# Altium footprint library PcbLib1.PcbLib: 13 footprints
Each footprint in its own frame and in the unit in brackets; x right, y up, seen from the top. Pads: shape width x height; smd on the part's side, far side on the other; paste and mask are expansions set on the pad; w line width, h text height; cw(c..) or ccw(c..) is an arc to the next point about the centre after c.
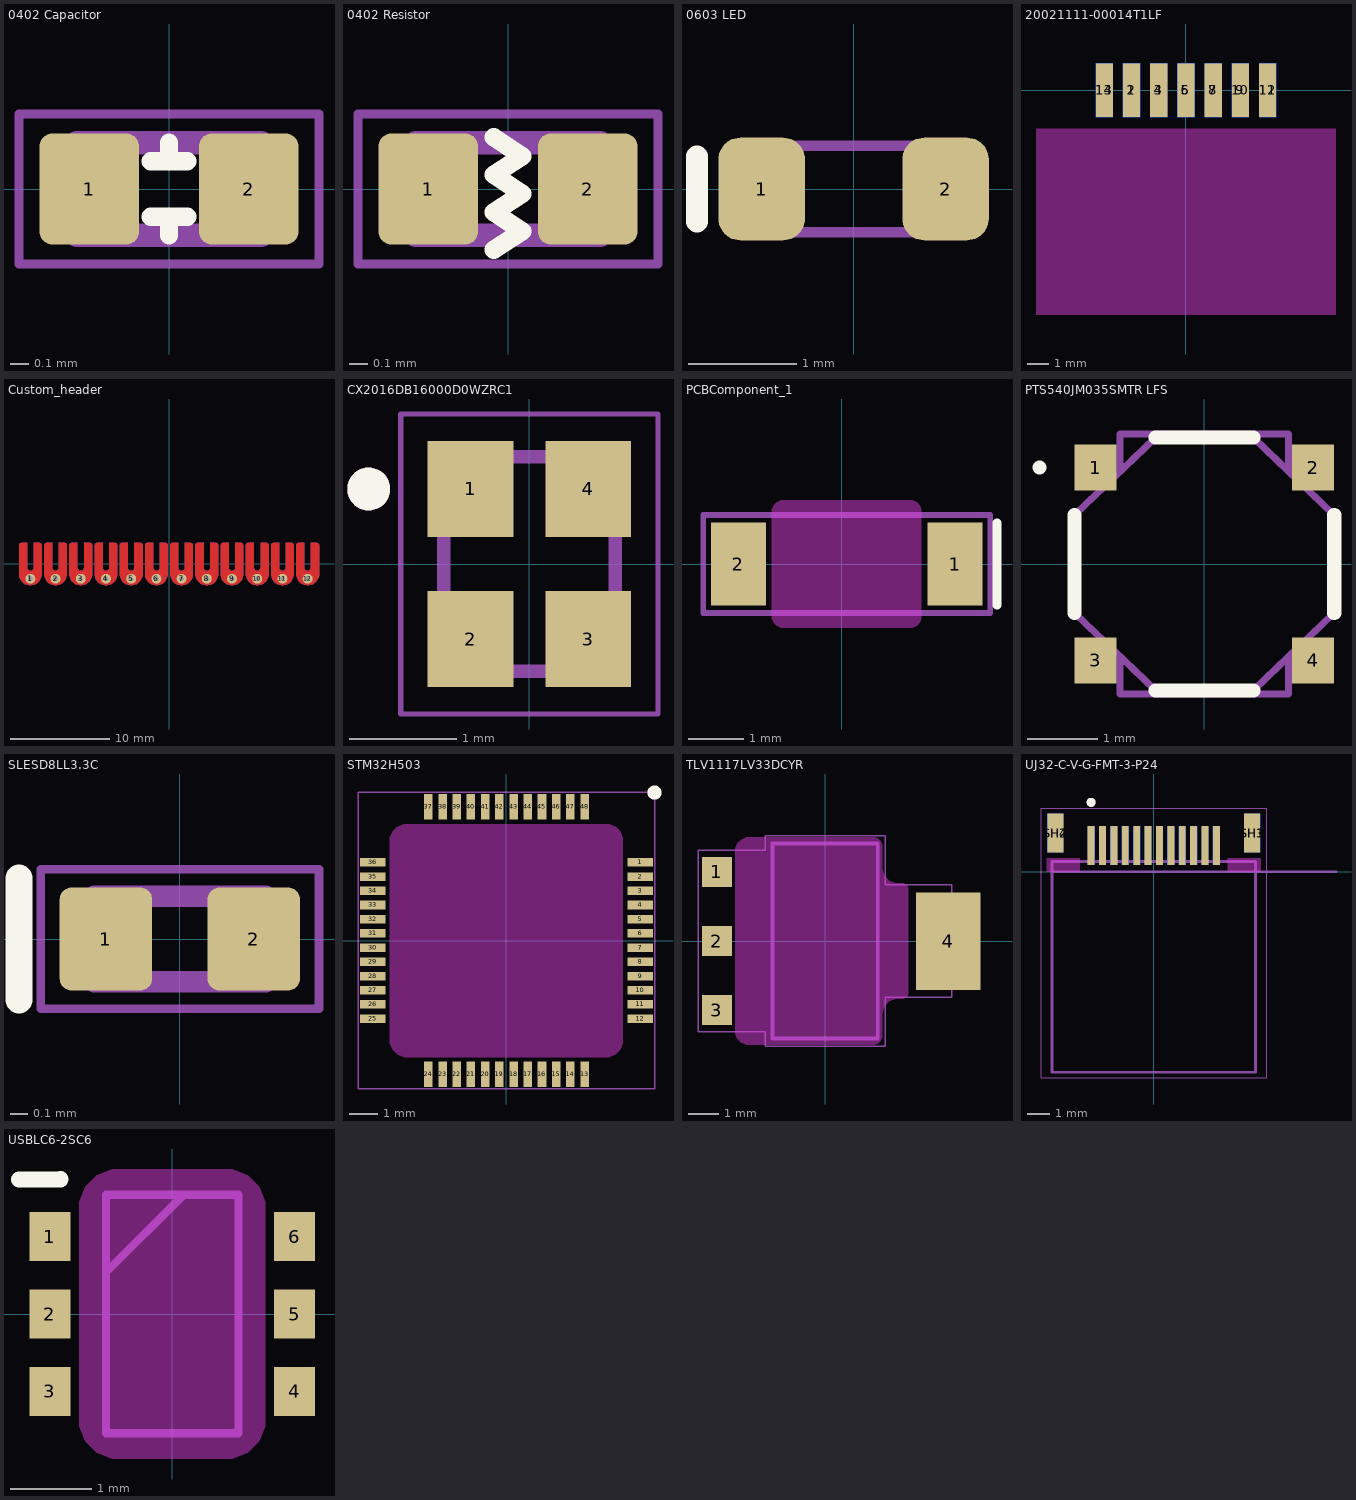
[diagram p0: the footprints below, top view; thin cyan lines are the x and y axes]

## 0402 Capacitor [mm]
pads (2):
  rrect25% 0.54x0.6 smd: 1(-0.432,0) 2(0.432,0)
Top Overlay:
  lines w0.1: -0.1,-0.15 0.1,-0.15 ; -0.1,0.15 0.1,0.15 ; 0,-0.25 0,-0.15 ; 0,0.15 0,0.25
Mechanical 13:
  lines w0.127: -0.5,-0.25 -0.5,0.25 0.5,0.25 0.5,-0.25 -0.5,-0.25
Mechanical 15:
  lines w0.05: -0.813,-0.406 -0.813,0.406 0.813,0.406 0.813,-0.406 -0.813,-0.406
3D body "step_temp.STEP": height 0.5, standoff 0, extent -0.5,-0.254 0.5,0.296

## 0402 Resistor [mm]
pads (2):
  rrect25% 0.54x0.6 smd: 1(-0.432,0) 2(0.432,0)
Top Overlay:
  lines w0.1: -0.076,-0.33 0.076,-0.229 -0.076,-0.127 0.076,-0.025 -0.076,0.076 0.076,0.178 -0.076,0.279
Mechanical 13:
  lines w0.127: -0.5,-0.25 -0.5,0.25 0.5,0.25 0.5,-0.25 -0.5,-0.25
Mechanical 15:
  lines w0.05: -0.813,-0.406 -0.813,0.406 0.813,0.406 0.813,-0.406 -0.813,-0.406
3D body "RC0402JR-070RL.step": height 0.4, standoff 0, extent -0.5,-0.25 0.5,0.25

## 0603 LED [mm]
pads (2):
  rrect50% 0.8x0.95 smd: 1(-0.85,0) 2(0.85,0)
Top Overlay:
  lines w0.2: -1.448,-0.3 -1.448,0.3
Mechanical 15:
  lines w0.1: -0.8,0.133 -0.533,0.4 ; -0.8,-0.4 0.8,-0.4 0.8,0.4 -0.8,0.4 -0.8,-0.4
3D body "APG1608ZGC.stp": height 0.2, standoff -0.05, extent -0.8,-0.4 0.8,0.4

## 20021111-00014T1LF [mm]
pads (14):
  rect 0.8x2.5 smd far side: 1(-2.54,0) 3(-1.27,0) 5(0,0) 7(1.27,0) 9(2.54,0) 11(3.81,0) 13(-3.81,0)
  rect 0.8x2.5 smd: 2(-2.54,0) 4(-1.27,0) 6(0,0) 8(1.27,0) 10(2.54,0) 12(3.81,0) 14(-3.81,0)
Keep-Out Layer:
  board cut-out: -7,-10.465 -7,-1.803 7,-1.803 7,-10.465

## Custom_header [mm]
pads (12):
  round 1 hole 0.5: 1(-13.97,-1.524) 2(-11.43,-1.524) 3(-8.89,-1.524) 4(-6.35,-1.524) 5(-3.81,-1.524) 6(-1.27,-1.524) 7(1.27,-1.524) 8(3.81,-1.524) 9(6.35,-1.524) 10(8.89,-1.524) 11(11.43,-1.524) 12(13.97,-1.524)
Top Layer:
  region: -15.113,-1.041 -15.113,1.854 -15.113,1.905 -15.074,1.998 -15.003,2.07 -14.91,2.108 -14.859,2.108 -14.3,2.108 -14.3,-0.406 -14.294,-0.471 -14.245,-0.59 -14.153,-0.681 -14.034,-0.73 -13.97,-0.737 -13.906,-0.73 -13.787,-0.681 -13.695,-0.59 -13.646,-0.471 -13.64,-0.406 -13.64,2.108 -13.081,2.108 -13.03,2.108 -12.937,2.07 -12.866,1.998 -12.827,1.905 -12.827,1.854 -12.827,-1.041 -12.827,-1.154 -12.871,-1.375 -12.957,-1.583 -13.082,-1.77 -13.241,-1.929 -13.429,-2.054 -13.637,-2.14 -13.857,-2.184 -13.97,-2.184 -14.083,-2.184 -14.303,-2.14 -14.511,-2.054 -14.699,-1.929 -14.858,-1.77 -14.983,-1.583 -15.069,-1.375 -15.113,-1.154
  region: -12.573,-1.041 -12.573,1.854 -12.573,1.905 -12.534,1.998 -12.463,2.07 -12.37,2.108 -12.319,2.108 -11.76,2.108 -11.76,-0.406 -11.754,-0.471 -11.705,-0.59 -11.613,-0.681 -11.494,-0.73 -11.43,-0.737 -11.366,-0.73 -11.247,-0.681 -11.155,-0.59 -11.106,-0.471 -11.1,-0.406 -11.1,2.108 -10.541,2.108 -10.49,2.108 -10.397,2.07 -10.326,1.998 -10.287,1.905 -10.287,1.854 -10.287,-1.041 -10.287,-1.154 -10.331,-1.375 -10.417,-1.583 -10.542,-1.77 -10.701,-1.929 -10.889,-2.054 -11.097,-2.14 -11.317,-2.184 -11.43,-2.184 -11.543,-2.184 -11.763,-2.14 -11.971,-2.054 -12.159,-1.929 -12.318,-1.77 -12.443,-1.583 -12.529,-1.375 -12.573,-1.154
  region: -10.033,-1.041 -10.033,1.854 -10.033,1.905 -9.994,1.998 -9.923,2.07 -9.83,2.108 -9.779,2.108 -9.22,2.108 -9.22,-0.406 -9.214,-0.471 -9.165,-0.59 -9.073,-0.681 -8.954,-0.73 -8.89,-0.737 -8.826,-0.73 -8.707,-0.681 -8.615,-0.59 -8.566,-0.471 -8.56,-0.406 -8.56,2.108 -8.001,2.108 -7.95,2.108 -7.857,2.07 -7.786,1.998 -7.747,1.905 -7.747,1.854 -7.747,-1.041 -7.747,-1.154 -7.791,-1.375 -7.877,-1.583 -8.002,-1.77 -8.161,-1.929 -8.349,-2.054 -8.557,-2.14 -8.777,-2.184 -8.89,-2.184 -9.003,-2.184 -9.223,-2.14 -9.431,-2.054 -9.619,-1.929 -9.778,-1.77 -9.903,-1.583 -9.989,-1.375 -10.033,-1.154
  region: -7.493,-1.041 -7.493,1.854 -7.493,1.905 -7.454,1.998 -7.383,2.07 -7.29,2.108 -7.239,2.108 -6.68,2.108 -6.68,-0.406 -6.674,-0.471 -6.625,-0.59 -6.533,-0.681 -6.414,-0.73 -6.35,-0.737 -6.286,-0.73 -6.167,-0.681 -6.075,-0.59 -6.026,-0.471 -6.02,-0.406 -6.02,2.108 -5.461,2.108 -5.41,2.108 -5.317,2.07 -5.246,1.998 -5.207,1.905 -5.207,1.854 -5.207,-1.041 -5.207,-1.154 -5.251,-1.375 -5.337,-1.583 -5.462,-1.77 -5.621,-1.929 -5.809,-2.054 -6.017,-2.14 -6.237,-2.184 -6.35,-2.184 -6.463,-2.184 -6.683,-2.14 -6.891,-2.054 -7.079,-1.929 -7.238,-1.77 -7.363,-1.583 -7.449,-1.375 -7.493,-1.154
  region: -4.953,-1.041 -4.953,1.854 -4.953,1.905 -4.914,1.998 -4.843,2.07 -4.75,2.108 -4.699,2.108 -4.14,2.108 -4.14,-0.406 -4.134,-0.471 -4.085,-0.59 -3.993,-0.681 -3.874,-0.73 -3.81,-0.737 -3.746,-0.73 -3.627,-0.681 -3.535,-0.59 -3.486,-0.471 -3.48,-0.406 -3.48,2.108 -2.921,2.108 -2.87,2.108 -2.777,2.07 -2.706,1.998 -2.667,1.905 -2.667,1.854 -2.667,-1.041 -2.667,-1.154 -2.711,-1.375 -2.797,-1.583 -2.922,-1.77 -3.081,-1.929 -3.269,-2.054 -3.477,-2.14 -3.697,-2.184 -3.81,-2.184 -3.923,-2.184 -4.143,-2.14 -4.351,-2.054 -4.539,-1.929 -4.698,-1.77 -4.823,-1.583 -4.909,-1.375 -4.953,-1.154
  region: -2.413,-1.041 -2.413,1.854 -2.413,1.905 -2.374,1.998 -2.303,2.07 -2.21,2.108 -2.159,2.108 -1.6,2.108 -1.6,-0.406 -1.594,-0.471 -1.545,-0.59 -1.453,-0.681 -1.334,-0.73 -1.27,-0.737 -1.206,-0.73 -1.087,-0.681 -0.995,-0.59 -0.946,-0.471 -0.94,-0.406 -0.94,2.108 -0.381,2.108 -0.33,2.108 -0.237,2.07 -0.166,1.998 -0.127,1.905 -0.127,1.854 -0.127,-1.041 -0.127,-1.154 -0.171,-1.375 -0.257,-1.583 -0.382,-1.77 -0.541,-1.929 -0.729,-2.054 -0.937,-2.14 -1.157,-2.184 -1.27,-2.184 -1.383,-2.184 -1.603,-2.14 -1.811,-2.054 -1.999,-1.929 -2.158,-1.77 -2.283,-1.583 -2.369,-1.375 -2.413,-1.154
  region: 0.127,-1.041 0.127,1.854 0.127,1.905 0.166,1.998 0.237,2.07 0.33,2.108 0.381,2.108 0.94,2.108 0.94,-0.406 0.946,-0.471 0.995,-0.59 1.087,-0.681 1.206,-0.73 1.27,-0.737 1.334,-0.73 1.453,-0.681 1.545,-0.59 1.594,-0.471 1.6,-0.406 1.6,2.108 2.159,2.108 2.21,2.108 2.303,2.07 2.374,1.998 2.413,1.905 2.413,1.854 2.413,-1.041 2.413,-1.154 2.369,-1.375 2.283,-1.583 2.158,-1.77 1.999,-1.929 1.811,-2.054 1.603,-2.14 1.383,-2.184 1.27,-2.184 1.157,-2.184 0.937,-2.14 0.729,-2.054 0.541,-1.929 0.382,-1.77 0.257,-1.583 0.171,-1.375 0.127,-1.154
  region: 2.667,-1.041 2.667,1.854 2.667,1.905 2.706,1.998 2.777,2.07 2.87,2.108 2.921,2.108 3.48,2.108 3.48,-0.406 3.486,-0.471 3.535,-0.59 3.627,-0.681 3.746,-0.73 3.81,-0.737 3.874,-0.73 3.993,-0.681 4.085,-0.59 4.134,-0.471 4.14,-0.406 4.14,2.108 4.699,2.108 4.75,2.108 4.843,2.07 4.914,1.998 4.953,1.905 4.953,1.854 4.953,-1.041 4.953,-1.154 4.909,-1.375 4.823,-1.583 4.698,-1.77 4.539,-1.929 4.351,-2.054 4.143,-2.14 3.923,-2.184 3.81,-2.184 3.697,-2.184 3.477,-2.14 3.269,-2.054 3.081,-1.929 2.922,-1.77 2.797,-1.583 2.711,-1.375 2.667,-1.154
  region: 5.207,-1.041 5.207,1.854 5.207,1.905 5.246,1.998 5.317,2.07 5.41,2.108 5.461,2.108 6.02,2.108 6.02,-0.406 6.026,-0.471 6.075,-0.59 6.167,-0.681 6.286,-0.73 6.35,-0.737 6.414,-0.73 6.533,-0.681 6.625,-0.59 6.674,-0.471 6.68,-0.406 6.68,2.108 7.239,2.108 7.29,2.108 7.383,2.07 7.454,1.998 7.493,1.905 7.493,1.854 7.493,-1.041 7.493,-1.154 7.449,-1.375 7.363,-1.583 7.238,-1.77 7.079,-1.929 6.891,-2.054 6.683,-2.14 6.463,-2.184 6.35,-2.184 6.237,-2.184 6.017,-2.14 5.809,-2.054 5.621,-1.929 5.462,-1.77 5.337,-1.583 5.251,-1.375 5.207,-1.154
  region: 7.747,-1.041 7.747,1.854 7.747,1.905 7.786,1.998 7.857,2.07 7.95,2.108 8.001,2.108 8.56,2.108 8.56,-0.406 8.566,-0.471 8.615,-0.59 8.707,-0.681 8.826,-0.73 8.89,-0.737 8.954,-0.73 9.073,-0.681 9.165,-0.59 9.214,-0.471 9.22,-0.406 9.22,2.108 9.779,2.108 9.83,2.108 9.923,2.07 9.994,1.998 10.033,1.905 10.033,1.854 10.033,-1.041 10.033,-1.154 9.989,-1.375 9.903,-1.583 9.778,-1.77 9.619,-1.929 9.431,-2.054 9.223,-2.14 9.003,-2.184 8.89,-2.184 8.777,-2.184 8.557,-2.14 8.349,-2.054 8.161,-1.929 8.002,-1.77 7.877,-1.583 7.791,-1.375 7.747,-1.154
  region: 10.287,-1.041 10.287,1.854 10.287,1.905 10.326,1.998 10.397,2.07 10.49,2.108 10.541,2.108 11.1,2.108 11.1,-0.406 11.106,-0.471 11.155,-0.59 11.247,-0.681 11.366,-0.73 11.43,-0.737 11.494,-0.73 11.613,-0.681 11.705,-0.59 11.754,-0.471 11.76,-0.406 11.76,2.108 12.319,2.108 12.37,2.108 12.463,2.07 12.534,1.998 12.573,1.905 12.573,1.854 12.573,-1.041 12.573,-1.154 12.529,-1.375 12.443,-1.583 12.318,-1.77 12.159,-1.929 11.971,-2.054 11.763,-2.14 11.543,-2.184 11.43,-2.184 11.317,-2.184 11.097,-2.14 10.889,-2.054 10.701,-1.929 10.542,-1.77 10.417,-1.583 10.331,-1.375 10.287,-1.154
  region: 12.827,-1.041 12.827,1.854 12.827,1.905 12.866,1.998 12.937,2.07 13.03,2.108 13.081,2.108 13.64,2.108 13.64,-0.406 13.646,-0.471 13.695,-0.59 13.787,-0.681 13.906,-0.73 13.97,-0.737 14.034,-0.73 14.153,-0.681 14.245,-0.59 14.294,-0.471 14.3,-0.406 14.3,2.108 14.859,2.108 14.91,2.108 15.003,2.07 15.074,1.998 15.113,1.905 15.113,1.854 15.113,-1.041 15.113,-1.154 15.069,-1.375 14.983,-1.583 14.858,-1.77 14.699,-1.929 14.511,-2.054 14.303,-2.14 14.083,-2.184 13.97,-2.184 13.857,-2.184 13.637,-2.14 13.429,-2.054 13.241,-1.929 13.082,-1.77 12.957,-1.583 12.871,-1.375 12.827,-1.154
Bottom Layer:
  region: -15.113,-1.041 -15.113,1.854 -15.113,1.905 -15.074,1.998 -15.003,2.07 -14.91,2.108 -14.859,2.108 -14.3,2.108 -14.3,-0.406 -14.294,-0.471 -14.245,-0.59 -14.153,-0.681 -14.034,-0.73 -13.97,-0.737 -13.906,-0.73 -13.787,-0.681 -13.695,-0.59 -13.646,-0.471 -13.64,-0.406 -13.64,2.108 -13.081,2.108 -13.03,2.108 -12.937,2.07 -12.866,1.998 -12.827,1.905 -12.827,1.854 -12.827,-1.041 -12.827,-1.154 -12.871,-1.375 -12.957,-1.583 -13.082,-1.77 -13.241,-1.929 -13.429,-2.054 -13.637,-2.14 -13.857,-2.184 -13.97,-2.184 -14.083,-2.184 -14.303,-2.14 -14.511,-2.054 -14.699,-1.929 -14.858,-1.77 -14.983,-1.583 -15.069,-1.375 -15.113,-1.154
  region: -12.573,-1.041 -12.573,1.854 -12.573,1.905 -12.534,1.998 -12.463,2.07 -12.37,2.108 -12.319,2.108 -11.76,2.108 -11.76,-0.406 -11.754,-0.471 -11.705,-0.59 -11.613,-0.681 -11.494,-0.73 -11.43,-0.737 -11.366,-0.73 -11.247,-0.681 -11.155,-0.59 -11.106,-0.471 -11.1,-0.406 -11.1,2.108 -10.541,2.108 -10.49,2.108 -10.397,2.07 -10.326,1.998 -10.287,1.905 -10.287,1.854 -10.287,-1.041 -10.287,-1.154 -10.331,-1.375 -10.417,-1.583 -10.542,-1.77 -10.701,-1.929 -10.889,-2.054 -11.097,-2.14 -11.317,-2.184 -11.43,-2.184 -11.543,-2.184 -11.763,-2.14 -11.971,-2.054 -12.159,-1.929 -12.318,-1.77 -12.443,-1.583 -12.529,-1.375 -12.573,-1.154
  region: -10.033,-1.041 -10.033,1.854 -10.033,1.905 -9.994,1.998 -9.923,2.07 -9.83,2.108 -9.779,2.108 -9.22,2.108 -9.22,-0.406 -9.214,-0.471 -9.165,-0.59 -9.073,-0.681 -8.954,-0.73 -8.89,-0.737 -8.826,-0.73 -8.707,-0.681 -8.615,-0.59 -8.566,-0.471 -8.56,-0.406 -8.56,2.108 -8.001,2.108 -7.95,2.108 -7.857,2.07 -7.786,1.998 -7.747,1.905 -7.747,1.854 -7.747,-1.041 -7.747,-1.154 -7.791,-1.375 -7.877,-1.583 -8.002,-1.77 -8.161,-1.929 -8.349,-2.054 -8.557,-2.14 -8.777,-2.184 -8.89,-2.184 -9.003,-2.184 -9.223,-2.14 -9.431,-2.054 -9.619,-1.929 -9.778,-1.77 -9.903,-1.583 -9.989,-1.375 -10.033,-1.154
  region: -7.493,-1.041 -7.493,1.854 -7.493,1.905 -7.454,1.998 -7.383,2.07 -7.29,2.108 -7.239,2.108 -6.68,2.108 -6.68,-0.406 -6.674,-0.471 -6.625,-0.59 -6.533,-0.681 -6.414,-0.73 -6.35,-0.737 -6.286,-0.73 -6.167,-0.681 -6.075,-0.59 -6.026,-0.471 -6.02,-0.406 -6.02,2.108 -5.461,2.108 -5.41,2.108 -5.317,2.07 -5.246,1.998 -5.207,1.905 -5.207,1.854 -5.207,-1.041 -5.207,-1.154 -5.251,-1.375 -5.337,-1.583 -5.462,-1.77 -5.621,-1.929 -5.809,-2.054 -6.017,-2.14 -6.237,-2.184 -6.35,-2.184 -6.463,-2.184 -6.683,-2.14 -6.891,-2.054 -7.079,-1.929 -7.238,-1.77 -7.363,-1.583 -7.449,-1.375 -7.493,-1.154
  region: -4.953,-1.041 -4.953,1.854 -4.953,1.905 -4.914,1.998 -4.843,2.07 -4.75,2.108 -4.699,2.108 -4.14,2.108 -4.14,-0.406 -4.134,-0.471 -4.085,-0.59 -3.993,-0.681 -3.874,-0.73 -3.81,-0.737 -3.746,-0.73 -3.627,-0.681 -3.535,-0.59 -3.486,-0.471 -3.48,-0.406 -3.48,2.108 -2.921,2.108 -2.87,2.108 -2.777,2.07 -2.706,1.998 -2.667,1.905 -2.667,1.854 -2.667,-1.041 -2.667,-1.154 -2.711,-1.375 -2.797,-1.583 -2.922,-1.77 -3.081,-1.929 -3.269,-2.054 -3.477,-2.14 -3.697,-2.184 -3.81,-2.184 -3.923,-2.184 -4.143,-2.14 -4.351,-2.054 -4.539,-1.929 -4.698,-1.77 -4.823,-1.583 -4.909,-1.375 -4.953,-1.154
  region: -2.413,-1.041 -2.413,1.854 -2.413,1.905 -2.374,1.998 -2.303,2.07 -2.21,2.108 -2.159,2.108 -1.6,2.108 -1.6,-0.406 -1.594,-0.471 -1.545,-0.59 -1.453,-0.681 -1.334,-0.73 -1.27,-0.737 -1.206,-0.73 -1.087,-0.681 -0.995,-0.59 -0.946,-0.471 -0.94,-0.406 -0.94,2.108 -0.381,2.108 -0.33,2.108 -0.237,2.07 -0.166,1.998 -0.127,1.905 -0.127,1.854 -0.127,-1.041 -0.127,-1.154 -0.171,-1.375 -0.257,-1.583 -0.382,-1.77 -0.541,-1.929 -0.729,-2.054 -0.937,-2.14 -1.157,-2.184 -1.27,-2.184 -1.383,-2.184 -1.603,-2.14 -1.811,-2.054 -1.999,-1.929 -2.158,-1.77 -2.283,-1.583 -2.369,-1.375 -2.413,-1.154
  region: 0.127,-1.041 0.127,1.854 0.127,1.905 0.166,1.998 0.237,2.07 0.33,2.108 0.381,2.108 0.94,2.108 0.94,-0.406 0.946,-0.471 0.995,-0.59 1.087,-0.681 1.206,-0.73 1.27,-0.737 1.334,-0.73 1.453,-0.681 1.545,-0.59 1.594,-0.471 1.6,-0.406 1.6,2.108 2.159,2.108 2.21,2.108 2.303,2.07 2.374,1.998 2.413,1.905 2.413,1.854 2.413,-1.041 2.413,-1.154 2.369,-1.375 2.283,-1.583 2.158,-1.77 1.999,-1.929 1.811,-2.054 1.603,-2.14 1.383,-2.184 1.27,-2.184 1.157,-2.184 0.937,-2.14 0.729,-2.054 0.541,-1.929 0.382,-1.77 0.257,-1.583 0.171,-1.375 0.127,-1.154
  region: 2.667,-1.041 2.667,1.854 2.667,1.905 2.706,1.998 2.777,2.07 2.87,2.108 2.921,2.108 3.48,2.108 3.48,-0.406 3.486,-0.471 3.535,-0.59 3.627,-0.681 3.746,-0.73 3.81,-0.737 3.874,-0.73 3.993,-0.681 4.085,-0.59 4.134,-0.471 4.14,-0.406 4.14,2.108 4.699,2.108 4.75,2.108 4.843,2.07 4.914,1.998 4.953,1.905 4.953,1.854 4.953,-1.041 4.953,-1.154 4.909,-1.375 4.823,-1.583 4.698,-1.77 4.539,-1.929 4.351,-2.054 4.143,-2.14 3.923,-2.184 3.81,-2.184 3.697,-2.184 3.477,-2.14 3.269,-2.054 3.081,-1.929 2.922,-1.77 2.797,-1.583 2.711,-1.375 2.667,-1.154
  region: 5.207,-1.041 5.207,1.854 5.207,1.905 5.246,1.998 5.317,2.07 5.41,2.108 5.461,2.108 6.02,2.108 6.02,-0.406 6.026,-0.471 6.075,-0.59 6.167,-0.681 6.286,-0.73 6.35,-0.737 6.414,-0.73 6.533,-0.681 6.625,-0.59 6.674,-0.471 6.68,-0.406 6.68,2.108 7.239,2.108 7.29,2.108 7.383,2.07 7.454,1.998 7.493,1.905 7.493,1.854 7.493,-1.041 7.493,-1.154 7.449,-1.375 7.363,-1.583 7.238,-1.77 7.079,-1.929 6.891,-2.054 6.683,-2.14 6.463,-2.184 6.35,-2.184 6.237,-2.184 6.017,-2.14 5.809,-2.054 5.621,-1.929 5.462,-1.77 5.337,-1.583 5.251,-1.375 5.207,-1.154
  region: 7.747,-1.041 7.747,1.854 7.747,1.905 7.786,1.998 7.857,2.07 7.95,2.108 8.001,2.108 8.56,2.108 8.56,-0.406 8.566,-0.471 8.615,-0.59 8.707,-0.681 8.826,-0.73 8.89,-0.737 8.954,-0.73 9.073,-0.681 9.165,-0.59 9.214,-0.471 9.22,-0.406 9.22,2.108 9.779,2.108 9.83,2.108 9.923,2.07 9.994,1.998 10.033,1.905 10.033,1.854 10.033,-1.041 10.033,-1.154 9.989,-1.375 9.903,-1.583 9.778,-1.77 9.619,-1.929 9.431,-2.054 9.223,-2.14 9.003,-2.184 8.89,-2.184 8.777,-2.184 8.557,-2.14 8.349,-2.054 8.161,-1.929 8.002,-1.77 7.877,-1.583 7.791,-1.375 7.747,-1.154
  region: 10.287,-1.041 10.287,1.854 10.287,1.905 10.326,1.998 10.397,2.07 10.49,2.108 10.541,2.108 11.1,2.108 11.1,-0.406 11.106,-0.471 11.155,-0.59 11.247,-0.681 11.366,-0.73 11.43,-0.737 11.494,-0.73 11.613,-0.681 11.705,-0.59 11.754,-0.471 11.76,-0.406 11.76,2.108 12.319,2.108 12.37,2.108 12.463,2.07 12.534,1.998 12.573,1.905 12.573,1.854 12.573,-1.041 12.573,-1.154 12.529,-1.375 12.443,-1.583 12.318,-1.77 12.159,-1.929 11.971,-2.054 11.763,-2.14 11.543,-2.184 11.43,-2.184 11.317,-2.184 11.097,-2.14 10.889,-2.054 10.701,-1.929 10.542,-1.77 10.417,-1.583 10.331,-1.375 10.287,-1.154
  region: 12.827,-1.041 12.827,1.854 12.827,1.905 12.866,1.998 12.937,2.07 13.03,2.108 13.081,2.108 13.64,2.108 13.64,-0.406 13.646,-0.471 13.695,-0.59 13.787,-0.681 13.906,-0.73 13.97,-0.737 14.034,-0.73 14.153,-0.681 14.245,-0.59 14.294,-0.471 14.3,-0.406 14.3,2.108 14.859,2.108 14.91,2.108 15.003,2.07 15.074,1.998 15.113,1.905 15.113,1.854 15.113,-1.041 15.113,-1.154 15.069,-1.375 14.983,-1.583 14.858,-1.77 14.699,-1.929 14.511,-2.054 14.303,-2.14 14.083,-2.184 13.97,-2.184 13.857,-2.184 13.637,-2.14 13.429,-2.054 13.241,-1.929 13.082,-1.77 12.957,-1.583 12.871,-1.375 12.827,-1.154

## CX2016DB16000D0WZRC1 [mm]
pads (4):
  rect 0.8x0.9 smd: 1(-0.55,0.7) 2(-0.55,-0.7) 3(0.55,-0.7) 4(0.55,0.7)
Top Overlay:
  circle w0.2: c-1.5,0.7 r0.1
Mechanical 13:
  circle w0.2: c-1.5,0.7 r0.1
  lines w0.127: -0.8,-1 0.8,-1 0.8,1 -0.8,1 -0.8,-1
Mechanical 15:
  lines w0.05: -1.2,-1.4 -1.2,1.4 1.2,1.4 1.2,-1.4 -1.2,-1.4
3D body "step_temp.STEP": height 0.45, standoff 0, extent -0.8,-1 0.8,1

## PCBComponent_1 [mm]
pads (2):
  rect 1x1.5 smd: 1(2.057,0) 2(-1.88,0)
Top Overlay:
  lines w0.16: 2.819,-0.75 2.819,0.75
Keep-Out Layer:
  board cut-out: 1.448,0.94 1.448,-0.94 -1.27,-0.94 -1.27,0.94
  board cut-out: -1.27,-0.956 -1.27,0.956 -1.27,0.995 -1.24,1.069 -1.183,1.125 -1.11,1.156 -1.07,1.156 1.248,1.156 1.288,1.156 1.361,1.125 1.417,1.069 1.448,0.995 1.448,0.956 1.448,-0.956 1.448,-0.995 1.417,-1.069 1.361,-1.125 1.288,-1.156 1.248,-1.156 -1.07,-1.156 -1.11,-1.156 -1.183,-1.125 -1.24,-1.069 -1.27,-0.995
Mechanical 15:
  lines w0.1: -2.515,-0.89 2.695,-0.89 2.695,0.89 -2.515,0.89 -2.515,-0.89
3D body "DFLS130L-7.stp": height 0.2, standoff -0.8, extent -1.748,-0.89 1.952,0.89

## PTS540JM035SMTR LFS [mm]
pads (4):
  rect 0.6x0.65 smd: 1(-1.55,1.375) 2(1.55,1.375) 3(-1.55,-1.375) 4(1.55,-1.375)
Top Overlay:
  lines w0.1: -2.4,1.375 ccw(c-2.35,1.375) -2.3,1.375 ccw(c-2.35,1.375) -2.4,1.375
  lines w0.2: -1.85,-0.7 -1.85,0.7 ; -0.7,-1.8 0.7,-1.8 ; -0.7,1.8 0.7,1.8 ; 1.85,-0.7 1.85,0.7
Mechanical 15:
  lines w0.1: -1.2,-1.33 -1.2,-1.85 1.2,-1.85 1.2,-1.33 ; -1.2,1.33 -1.2,1.85 1.2,1.85 1.2,1.33 ; -1.85,-0.7 -0.7,-1.8 0.7,-1.8 1.85,-0.7 1.85,0.7 0.7,1.8 0,1.8 -0.7,1.8 -1.85,0.7 -1.85,-0.7
3D body "PTS540JM035SMTR_LFS.stp": height 0.3, standoff -0.05, extent -1.85,-1.85 1.85,1.85

## SLESD8LL3.3C [mm]
pads (2):
  rrect25% 0.54x0.6 smd: 1(-0.432,0) 2(0.432,0)
Top Overlay:
  lines w0.16: -0.94,-0.356 -0.94,0.356
Mechanical 13:
  lines w0.127: -0.5,-0.25 0.5,-0.25 0.5,0.25 -0.5,0.25 -0.5,-0.25
Mechanical 15:
  lines w0.05: -0.813,-0.406 0.813,-0.406 0.813,0.406 -0.813,0.406 -0.813,-0.406
3D body "RC0402JR-070RL.step": height 0.4, standoff 0, extent -0.5,-0.25 0.5,0.25

## STM32H503 [mm]
pads (48):
  rect 0.9x0.3 smd mask+0.1: 1(4.7,2.75) 2(4.7,2.25) 3(4.7,1.75) 4(4.7,1.25) 5(4.7,0.75) 6(4.7,0.25) 7(4.7,-0.25) 8(4.7,-0.75) 9(4.7,-1.25) 10(4.7,-1.75) 11(4.7,-2.25) 12(4.7,-2.75) 25(-4.7,-2.75) 26(-4.7,-2.25) 27(-4.7,-1.75) 28(-4.7,-1.25) 29(-4.7,-0.75) 30(-4.7,-0.25) 31(-4.7,0.25) 32(-4.7,0.75) 33(-4.7,1.25) 34(-4.7,1.75) 35(-4.7,2.25) 36(-4.7,2.75)
  rect 0.3x0.9 smd mask+0.1: 13(2.75,-4.7) 14(2.25,-4.7) 15(1.75,-4.7) 16(1.25,-4.7) 17(0.75,-4.7) 18(0.25,-4.7) 19(-0.25,-4.7) 20(-0.75,-4.7) 21(-1.25,-4.7) 22(-1.75,-4.7) 23(-2.25,-4.7) 24(-2.75,-4.7) 37(-2.75,4.7) 38(-2.25,4.7) 39(-1.75,4.7) 40(-1.25,4.7) 41(-0.75,4.7) 42(-0.25,4.7) 43(0.25,4.7) 44(0.75,4.7) 45(1.25,4.7) 46(1.75,4.7) 47(2.25,4.7) 48(2.75,4.7)
Top Overlay:
  circle w0.25: c5.207,5.207 r0.125
Bottom Overlay:
  circle w0.25: c5.207,5.207 r0.125
Keep-Out Layer:
  board cut-out: -4.1,-3.5 -4.1,3.5 -4.1,3.619 -4.009,3.84 -3.84,4.009 -3.619,4.1 -3.5,4.1 3.5,4.1 3.619,4.1 3.84,4.009 4.009,3.84 4.1,3.619 4.1,3.5 4.1,-3.5 4.1,-3.619 4.009,-3.84 3.84,-4.009 3.619,-4.1 3.5,-4.1 -3.5,-4.1 -3.619,-4.1 -3.84,-4.009 -4.009,-3.84 -4.1,-3.619
Mechanical 15:
  lines w0.05: -5.225,-5.225 5.225,-5.225 5.225,5.225 -5.225,5.225 -5.225,-5.225
3D body "STM32H503CBT6.stp": height 0.11, standoff -1.3, extent -4.5,-4.5 4.5,4.5

## TLV1117LV33DCYR [mm]
pads (4):
  rect 1x1 smd: 1(-3.61,2.3) 2(-3.61,0) 3(-3.61,-2.3)
  rect 2.15x3.25 smd: 4(4.1,0)
Bottom Overlay:
  circle w0.254: c-4.166,3.531 r0.105
Keep-Out Layer:
  board cut-out: -2.997,-2.994 -2.997,-3.085 -2.928,-3.253 -2.799,-3.382 -2.631,-3.451 -2.54,-3.451 1.6,-3.451 1.661,-3.451 1.773,-3.405 1.859,-3.319 1.905,-3.207 1.905,-3.147 1.905,-2.435 1.915,-2.336 1.991,-2.153 2.131,-2.013 2.314,-1.937 2.413,-1.927 2.565,-1.927 2.606,-1.927 2.681,-1.897 2.738,-1.839 2.769,-1.765 2.769,-1.724 2.769,1.724 2.769,1.765 2.738,1.839 2.681,1.897 2.606,1.927 2.565,1.927 2.413,1.927 2.314,1.937 2.131,2.013 1.991,2.153 1.915,2.336 1.905,2.435 1.905,3.147 1.905,3.207 1.859,3.319 1.773,3.405 1.661,3.451 1.6,3.451 -2.54,3.451 -2.631,3.451 -2.799,3.382 -2.928,3.253 -2.997,3.085 -2.997,2.994
Mechanical 13:
  lines w0.127: -1.75,-3.25 -1.75,3.25 1.75,3.25 1.75,-3.25 -1.75,-3.25
Mechanical 15:
  lines w0.05: -4.225,-3.025 -4.225,3.025 -2,3.025 -2,3.5 2,3.5 2,1.875 4.225,1.875 4.225,-1.875 2,-1.875 2,-3.5 -2,-3.5 -2,-3.025 -4.225,-3.025
3D body "step_temp.STEP": height 0.38, standoff -1.42, extent -3.549,-3.25 3.449,3.25

## UJ32-C-V-G-FMT-3-P24 [mm]
pads (28):
  rect 0.3x1.7 smd: A1(-2.75,1.15) A2(-2.25,1.15) A3(-1.75,1.15) A4(-1.25,1.15) A5(-0.75,1.15) A6(-0.25,1.15) A7(0.25,1.15) A8(0.75,1.15) A9(1.25,1.15) A10(1.75,1.15) A11(2.25,1.15) A12(2.75,1.15)
  rect 0.3x1.7 smd far side: B1(2.75,1.15) B2(2.25,1.15) B3(1.75,1.15) B4(1.25,1.15) B5(0.75,1.15) B6(0.25,1.15) B7(-0.25,1.15) B8(-0.75,1.15) B9(-1.25,1.15) B10(-1.75,1.15) B11(-2.25,1.15) B12(-2.75,1.15)
  rect 0.7x1.7 smd: SH1(4.32,1.7) SH2(-4.32,1.7)
  rect 0.7x1.7 smd far side: SH3(4.32,1.7) SH4(-4.32,1.7)
Top Overlay:
  circle w0.2: c-2.75,3.05 r0.1
Keep-Out Layer:
  board cut-out: 3.25,0 4.7,0 4.7,0.6 3.25,0.6
  board cut-out: -3.25,0 -4.7,0 -4.7,0.6 -3.25,0.6
Mechanical 13:
  circle w0.2: c-2.75,3.05 r0.1
  lines w0.127: 8,0 -4.47,0 ; -4.47,0 -4.47,-8.8 4.47,-8.8 4.47,0.45 -4.47,0.45 -4.47,0
  text "PCB EDGE" at 5,0.25 h1.02
Mechanical 14:
  lines w0.127: -4.47,-8.8 4.47,-8.8 4.47,0.45 -4.47,0.45 -4.47,-8.8
Mechanical 15:
  lines w0.05: -4.95,-9.05 4.95,-9.05 4.95,2.8 -4.95,2.8 -4.95,-9.05
Mechanical 16:
  lines w0.05: -4.95,-9.05 4.95,-9.05 4.95,2.8 -4.95,2.8 -4.95,-9.05

## USBLC6-2SC6 [mm]
pads (6):
  rect 0.5x0.6 smd: 1(-1.5,0.95) 2(-1.5,0) 3(-1.5,-0.95) 4(1.5,-0.95) 5(1.5,0) 6(1.5,0.95)
Top Overlay:
  lines w0.2: -1.88,1.651 -1.372,1.651
Keep-Out Layer:
  board cut-out: -1.143,-1.278 -1.143,1.278 -1.143,1.377 -1.067,1.561 -0.926,1.702 -0.742,1.778 -0.643,1.778 0.643,1.778 0.742,1.778 0.926,1.702 1.067,1.561 1.143,1.377 1.143,1.278 1.143,-1.278 1.143,-1.377 1.067,-1.561 0.926,-1.702 0.742,-1.778 0.643,-1.778 -0.643,-1.778 -0.742,-1.778 -0.926,-1.702 -1.067,-1.561 -1.143,-1.377
Mechanical 15:
  lines w0.1: -0.812,0.512 0.138,1.462 ; -0.812,-1.462 0.812,-1.462 0.812,1.462 -0.812,1.462 -0.812,-1.462
3D body "USBLC6-2SC6.stp": height 0.1, standoff -1.35, extent -1.425,-1.488 1.375,1.437